# Altium schematic symbol library Schlib1.SchLib: 823 symbols (part 3 of 12)
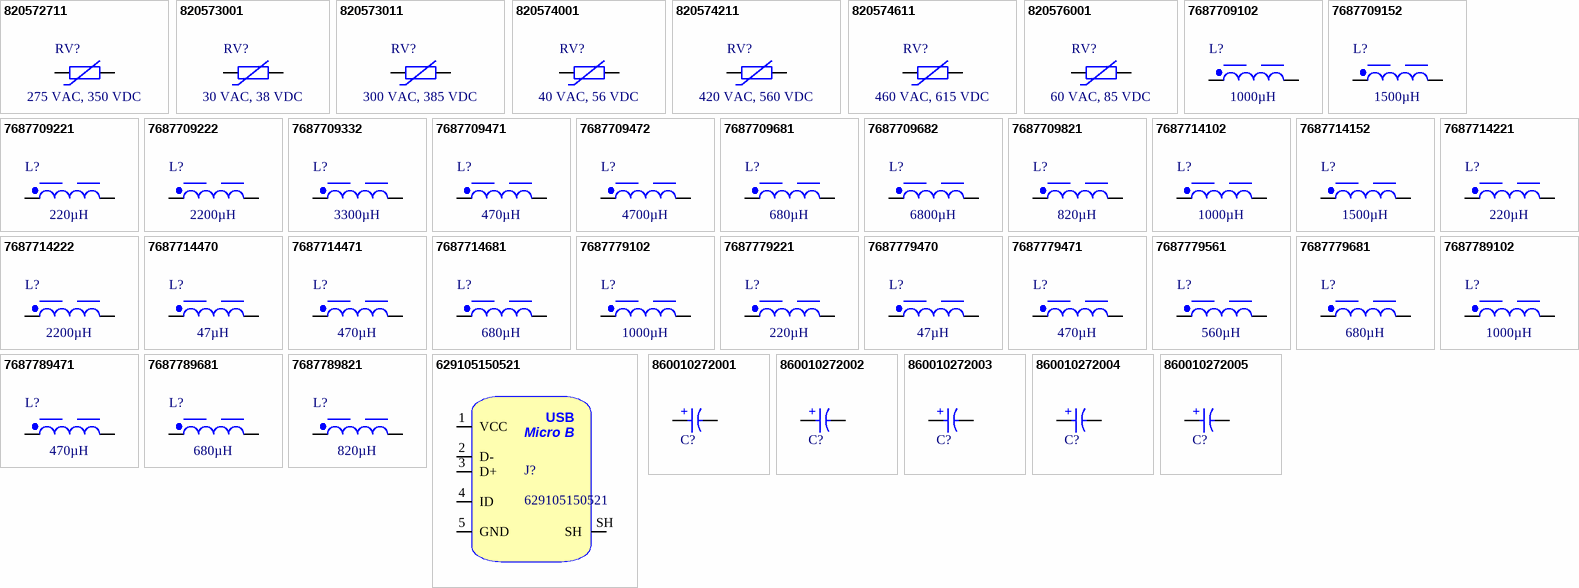
[diagram p41: symbols 820572711 to 860010272005]

## 820574611
designator RV?, comment 460 VAC, 615 VDC
WE-VD Disk Varistor, D9 x H13 mm, 460 VAC, 615 VDC; Manufacturer Part Number: 820574611; Manufacturer: Wurth Elektronik; Channel Input Capacitance: 75 pF; Clamping Voltage: 1240 V; Energy Absorption: 45 J; Operating Voltage (AC): 460 V; Operating Voltage (DC): 615 V; Power Dissipation: 0.25 W; (Reverse) Breakdown Voltage: 750 V; (Reverse) Peak Pulse Current: 1200 A; Category: Surge Protection; Match Code: WE-VD; ComponentLink1Description: Website Link; ComponentLink1URL: https://www.we-online.com/redexpert/article/820574611?ad; ComponentLink2Description: Datasheet Link; ComponentLink2URL: https://www.we-online.com/redexpert/spec/820574611?ad; Mount: Through Hole; Min Operating Temperature: -40 °C; Max Operating Temperature: 105 °C; Packaging: Tape and Reel; Width: 7.9 mm; Height: 13 mm; Diameter: 9 mm
footprint D9W7.9H13P3
pins: 1, 2

## 820576001
designator RV?, comment 60 VAC, 85 VDC
WE-VD Disk Varistor, D9 x H12 mm, 60 VAC, 85 VDC; Manufacturer Part Number: 820576001; Manufacturer: Wurth Elektronik; Channel Input Capacitance: 540 pF; Clamping Voltage: 165 V; Energy Absorption: 7 J; Operating Voltage (AC): 60 V; Operating Voltage (DC): 85 V; Power Dissipation: 0.25 W; (Reverse) Breakdown Voltage: 100 V; (Reverse) Peak Pulse Current: 1200 A; Category: Surge Protection; Match Code: WE-VD; ComponentLink1Description: Website Link; ComponentLink1URL: https://www.we-online.com/redexpert/article/820576001?ad; ComponentLink2Description: Datasheet Link; ComponentLink2URL: https://www.we-online.com/redexpert/spec/820576001?ad; Mount: Through Hole; Min Operating Temperature: -40 °C; Max Operating Temperature: 105 °C; Packaging: Tape and Reel; Width: 3.9 mm; Height: 12 mm; Diameter: 9 mm
footprint D9W3.9H12P0.8
pins: 1, 2

## 7687709102
designator L?, comment 1000µH
WE-PD HV High Voltage Power Inductor, SMT, size 1210, 1000µH, 0.72A, 1.4Ω; Manufacturer Part Number: 7687709102; Manufacturer: Wurth Elektronik; Case/Size Code: 1210; DC Resistance: 1.2Ω; Operating Voltage (DC): 400V; Saturation Current: 0.9A; Self Resonant Frequency: 1.2MHz; Category: Power Inductors; Match Code: WE-PD HV; ComponentLink1Description: Website Link; ComponentLink1URL: https://www.we-online.com/redexpert/article/7687709102?ad; ComponentLink2Description: Datasheet Link; ComponentLink2URL: https://www.we-online.com/redexpert/spec/7687709102?ad; Mount: Surface Mount; Min Operating Temperature: -40°C; Max Operating Temperature: 125°C; Packaging: Tape and Reel; Length: 12mm; Width: 12mm; Height: 10.5mm; DC Resistance Max: 1.4Ω; Inductance: 1000µH; Rated Current: 0.72A
footprint WE-PD HV_1210 (SMT High Voltage Power Inductor, 2-Leads, body 12.00x12.00mm)
simulation model 1210_7687709102_1000u
pins: 1, 2

## 7687709152
designator L?, comment 1500µH
WE-PD HV High Voltage Power Inductor, SMT, size 1210, 1500µH, 0.52A, 2.2Ω; Manufacturer Part Number: 7687709152; Manufacturer: Wurth Elektronik; Case/Size Code: 1210; DC Resistance: 1.9Ω; Operating Voltage (DC): 400V; Saturation Current: 0.8A; Self Resonant Frequency: 0.9MHz; Category: Power Inductors; Match Code: WE-PD HV; ComponentLink1Description: Website Link; ComponentLink1URL: https://www.we-online.com/redexpert/article/7687709152?ad; ComponentLink2Description: Datasheet Link; ComponentLink2URL: https://www.we-online.com/redexpert/spec/7687709152?ad; Mount: Surface Mount; Min Operating Temperature: -40°C; Max Operating Temperature: 125°C; Packaging: Tape and Reel; Length: 12mm; Width: 12mm; Height: 10.5mm; DC Resistance Max: 2.2Ω; Inductance: 1500µH; Rated Current: 0.52A
footprint WE-PD HV_1210 (SMT High Voltage Power Inductor, 2-Leads, body 12.00x12.00mm)
simulation model 1210_7687709152_1500u
pins: 1, 2

## 7687709221
designator L?, comment 220µH
WE-PD HV High Voltage Power Inductor, SMT, size 1210, 220µH, 1.3A, 0.35Ω; Manufacturer Part Number: 7687709221; Manufacturer: Wurth Elektronik; Case/Size Code: 1210; DC Resistance: 0.3Ω; Operating Voltage (DC): 400V; Saturation Current: 2A; Self Resonant Frequency: 2.2MHz; Category: Power Inductors; Match Code: WE-PD HV; ComponentLink1Description: Website Link; ComponentLink1URL: https://www.we-online.com/redexpert/article/7687709221?ad; ComponentLink2Description: Datasheet Link; ComponentLink2URL: https://www.we-online.com/redexpert/spec/7687709221?ad; Mount: Surface Mount; Min Operating Temperature: -40°C; Max Operating Temperature: 125°C; Packaging: Tape and Reel; Length: 12mm; Width: 12mm; Height: 10.5mm; DC Resistance Max: 0.35Ω; Inductance: 220µH; Rated Current: 1.3A
footprint WE-PD HV_1210
simulation model 1210_7687709221_220u
pins: 1, 2

## 7687709222
designator L?, comment 2200µH
WE-PD HV High Voltage Power Inductor, SMT, size 1210, 2200µH, 0.43A, 3.7Ω; Manufacturer Part Number: 7687709222; Manufacturer: Wurth Elektronik; Case/Size Code: 1210; DC Resistance: 3.1Ω; Operating Voltage (DC): 400V; Saturation Current: 0.65A; Self Resonant Frequency: 0.8MHz; Category: Power Inductors; Match Code: WE-PD HV; ComponentLink1Description: Website Link; ComponentLink1URL: https://www.we-online.com/redexpert/article/7687709222?ad; ComponentLink2Description: Datasheet Link; ComponentLink2URL: https://www.we-online.com/redexpert/spec/7687709222?ad; Mount: Surface Mount; Min Operating Temperature: -40°C; Max Operating Temperature: 125°C; Packaging: Tape and Reel; Length: 12mm; Width: 12mm; Height: 10.5mm; DC Resistance Max: 3.7Ω; Inductance: 2200µH; Rated Current: 0.43A
footprint WE-PD HV_1210
simulation model 1210_7687709222_2200u
pins: 1, 2

## 7687709332
designator L?, comment 3300µH
WE-PD HV High Voltage Power Inductor, SMT, size 1210, 3300µH, 0.37A, 5.2Ω; Manufacturer Part Number: 7687709332; Manufacturer: Wurth Elektronik; Case/Size Code: 1210; DC Resistance: 4.4Ω; Operating Voltage (DC): 400V; Saturation Current: 0.52A; Self Resonant Frequency: 0.6MHz; Category: Power Inductors; Match Code: WE-PD HV; ComponentLink1Description: Website Link; ComponentLink1URL: https://www.we-online.com/redexpert/article/7687709332?ad; ComponentLink2Description: Datasheet Link; ComponentLink2URL: https://www.we-online.com/redexpert/spec/7687709332?ad; Mount: Surface Mount; Min Operating Temperature: -40°C; Max Operating Temperature: 125°C; Packaging: Tape and Reel; Length: 12mm; Width: 12mm; Height: 10.5mm; DC Resistance Max: 5.2Ω; Inductance: 3300µH; Rated Current: 0.37A
footprint WE-PD HV_1210
simulation model 1210_7687709332_3300u
pins: 1, 2

## 7687709471
designator L?, comment 470µH
WE-PD HV High Voltage Power Inductor, SMT, size 1210, 470µH, 0.97A, 0.8Ω; Manufacturer Part Number: 7687709471; Manufacturer: Wurth Elektronik; Case/Size Code: 1210; DC Resistance: 0.68Ω; Operating Voltage (DC): 400V; Saturation Current: 1.4A; Self Resonant Frequency: 1.9MHz; Category: Power Inductors; Match Code: WE-PD HV; ComponentLink1Description: Website Link; ComponentLink1URL: https://www.we-online.com/redexpert/article/7687709471?ad; ComponentLink2Description: Datasheet Link; ComponentLink2URL: https://www.we-online.com/redexpert/spec/7687709471?ad; Mount: Surface Mount; Min Operating Temperature: -40°C; Max Operating Temperature: 125°C; Packaging: Tape and Reel; Length: 12mm; Width: 12mm; Height: 10.5mm; DC Resistance Max: 0.8Ω; Inductance: 470µH; Rated Current: 0.97A
footprint WE-PD HV_1210
simulation model 1210_7687709471_470u
pins: 1, 2

## 7687709472
designator L?, comment 4700µH
WE-PD HV High Voltage Power Inductor, SMT, size 1210, 4700µH, 0.3A, 7.8Ω; Manufacturer Part Number: 7687709472; Manufacturer: Wurth Elektronik; Case/Size Code: 1210; DC Resistance: 6.5Ω; Operating Voltage (DC): 400V; Saturation Current: 0.48A; Self Resonant Frequency: 0.5MHz; Category: Power Inductors; Match Code: WE-PD HV; ComponentLink1Description: Website Link; ComponentLink1URL: https://www.we-online.com/redexpert/article/7687709472?ad; ComponentLink2Description: Datasheet Link; ComponentLink2URL: https://www.we-online.com/redexpert/spec/7687709472?ad; Mount: Surface Mount; Min Operating Temperature: -40°C; Max Operating Temperature: 125°C; Packaging: Tape and Reel; Length: 12mm; Width: 12mm; Height: 10.5mm; DC Resistance Max: 7.8Ω; Inductance: 4700µH; Rated Current: 0.3A
footprint WE-PD HV_1210
simulation model 1210_7687709472_4700u
pins: 1, 2

## 7687709681
designator L?, comment 680µH
WE-PD HV High Voltage Power Inductor, SMT, size 1210, 680µH, 0.8A, 1.15Ω; Manufacturer Part Number: 7687709681; Manufacturer: Wurth Elektronik; Case/Size Code: 1210; DC Resistance: 0.95Ω; Operating Voltage (DC): 400V; Saturation Current: 1.2A; Self Resonant Frequency: 1.5MHz; Category: Power Inductors; Match Code: WE-PD HV; ComponentLink1Description: Website Link; ComponentLink1URL: https://www.we-online.com/redexpert/article/7687709681?ad; ComponentLink2Description: Datasheet Link; ComponentLink2URL: https://www.we-online.com/redexpert/spec/7687709681?ad; Mount: Surface Mount; Min Operating Temperature: -40°C; Max Operating Temperature: 125°C; Packaging: Tape and Reel; Length: 12mm; Width: 12mm; Height: 10.5mm; DC Resistance Max: 1.15Ω; Inductance: 680µH; Rated Current: 0.8A
footprint WE-PD HV_1210
simulation model 1210_7687709681_680u
pins: 1, 2

## 7687709682
designator L?, comment 6800µH
WE-PD HV High Voltage Power Inductor, SMT, size 1210, 6800µH, 0.28A, 9.6Ω; Manufacturer Part Number: 7687709682; Manufacturer: Wurth Elektronik; Case/Size Code: 1210; DC Resistance: 8Ω; Operating Voltage (DC): 400V; Saturation Current: 0.38A; Self Resonant Frequency: 0.45MHz; Category: Power Inductors; Match Code: WE-PD HV; ComponentLink1Description: Website Link; ComponentLink1URL: https://www.we-online.com/redexpert/article/7687709682?ad; ComponentLink2Description: Datasheet Link; ComponentLink2URL: https://www.we-online.com/redexpert/spec/7687709682?ad; Mount: Surface Mount; Min Operating Temperature: -40°C; Max Operating Temperature: 125°C; Packaging: Tape and Reel; Length: 12mm; Width: 12mm; Height: 10.5mm; DC Resistance Max: 9.6Ω; Inductance: 6800µH; Rated Current: 0.28A
footprint WE-PD HV_1210
simulation model 1210_7687709682_6800u
pins: 1, 2

## 7687709821
designator L?, comment 820µH
WE-PD HV High Voltage Power Inductor, SMT, size 1210, 820µH, 0.76A, 1.25Ω; Manufacturer Part Number: 7687709821; Manufacturer: Wurth Elektronik; Case/Size Code: 1210; Operating Voltage (DC): 400V; Saturation Current: 1.1A; Self Resonant Frequency: 1.4MHz; Category: Power Inductors; Match Code: WE-PD HV; ComponentLink1Description: Website Link; ComponentLink1URL: https://www.we-online.com/redexpert/article/7687709821?ad; ComponentLink2Description: Datasheet Link; ComponentLink2URL: https://www.we-online.com/redexpert/spec/7687709821?ad; Mount: Surface Mount; Min Operating Temperature: -40°C; Max Operating Temperature: 125°C; Packaging: Tape and Reel; Length: 12mm; Width: 12mm; Height: 10.5mm; DC Resistance Max: 1.25Ω; Inductance: 820µH; Rated Current: 0.76A
footprint WE-PD HV_1210
simulation model 1210_7687709821_820u
pins: 1, 2

## 7687714102
designator L?, comment 1000µH
WE-PD HV High Voltage Power Inductor, SMT, size 1060, 1000µH, 0.4A, 3.2Ω; Manufacturer Part Number: 7687714102; Manufacturer: Wurth Elektronik; Case/Size Code: 1060; DC Resistance: 2.7Ω; Operating Voltage (DC): 400V; Saturation Current: 0.55A; Self Resonant Frequency: 1.7MHz; Category: Power Inductors; Match Code: WE-PD HV; ComponentLink1Description: Website Link; ComponentLink1URL: https://www.we-online.com/redexpert/article/7687714102?ad; ComponentLink2Description: Datasheet Link; ComponentLink2URL: https://www.we-online.com/redexpert/spec/7687714102?ad; Mount: Surface Mount; Min Operating Temperature: -40°C; Max Operating Temperature: 125°C; Packaging: Tape and Reel; Length: 10mm; Width: 10mm; Height: 6mm; DC Resistance Max: 3.2Ω; Inductance: 1000µH; Rated Current: 0.4A
footprint WE-PD HV_1060
simulation model 1060_7687714102_1000u
pins: 1, 2

## 7687714152
designator L?, comment 1500µH
WE-PD HV High Voltage Power Inductor, SMT, size 1060, 1500µH, 0.32A, 4.6Ω; Manufacturer Part Number: 7687714152; Manufacturer: Wurth Elektronik; Case/Size Code: 1060; DC Resistance: 3.8Ω; Operating Voltage (DC): 400V; Saturation Current: 0.46A; Self Resonant Frequency: 1.4MHz; Category: Power Inductors; Match Code: WE-PD HV; ComponentLink1Description: Website Link; ComponentLink1URL: https://www.we-online.com/redexpert/article/7687714152?ad; ComponentLink2Description: Datasheet Link; ComponentLink2URL: https://www.we-online.com/redexpert/spec/7687714152?ad; Mount: Surface Mount; Min Operating Temperature: -40°C; Max Operating Temperature: 125°C; Packaging: Tape and Reel; Length: 10mm; Width: 10mm; Height: 6mm; DC Resistance Max: 4.6Ω; Inductance: 1500µH; Rated Current: 0.32A
footprint WE-PD HV_1060
simulation model 1060_7687714152_1500u
pins: 1, 2

## 7687714221
designator L?, comment 220µH
WE-PD HV High Voltage Power Inductor, SMT, size 1060, 220µH, 0.95A, 0.68Ω; Manufacturer Part Number: 7687714221; Manufacturer: Wurth Elektronik; Case/Size Code: 1060; DC Resistance: 0.57Ω; Operating Voltage (DC): 400V; Saturation Current: 1.15A; Self Resonant Frequency: 3.9MHz; Category: Power Inductors; Match Code: WE-PD HV; ComponentLink1Description: Website Link; ComponentLink1URL: https://www.we-online.com/redexpert/article/7687714221?ad; ComponentLink2Description: Datasheet Link; ComponentLink2URL: https://www.we-online.com/redexpert/spec/7687714221?ad; Mount: Surface Mount; Min Operating Temperature: -40°C; Max Operating Temperature: 125°C; Packaging: Tape and Reel; Length: 10mm; Width: 10mm; Height: 6mm; DC Resistance Max: 0.68Ω; Inductance: 220µH; Rated Current: 0.95A
footprint WE-PD HV_1060
simulation model 1060_7687714221_220u
pins: 1, 2

## 7687714222
designator L?, comment 2200µH
WE-PD HV High Voltage Power Inductor, SMT, size 1060, 2200µH, 0.26A, 6.5Ω; Manufacturer Part Number: 7687714222; Manufacturer: Wurth Elektronik; Case/Size Code: 1060; DC Resistance: 5.5Ω; Operating Voltage (DC): 400V; Saturation Current: 0.37A; Self Resonant Frequency: 1.2MHz; Category: Power Inductors; Match Code: WE-PD HV; ComponentLink1Description: Website Link; ComponentLink1URL: https://www.we-online.com/redexpert/article/7687714222?ad; ComponentLink2Description: Datasheet Link; ComponentLink2URL: https://www.we-online.com/redexpert/spec/7687714222?ad; Mount: Surface Mount; Min Operating Temperature: -40°C; Max Operating Temperature: 125°C; Packaging: Tape and Reel; Length: 10mm; Width: 10mm; Height: 6mm; DC Resistance Max: 6.5Ω; Inductance: 2200µH; Rated Current: 0.26A
footprint WE-PD HV_1060
simulation model 1060_7687714222_2200u
pins: 1, 2

## 7687714470
designator L?, comment 47µH
WE-PD HV High Voltage Power Inductor, SMT, size 1060, 47µH, 1.7A, 0.156Ω; Manufacturer Part Number: 7687714470; Manufacturer: Wurth Elektronik; Case/Size Code: 1060; DC Resistance: 0.13Ω; Operating Voltage (DC): 400V; Saturation Current: 2.3A; Self Resonant Frequency: 10.2MHz; Category: Power Inductors; Match Code: WE-PD HV; ComponentLink1Description: Website Link; ComponentLink1URL: https://www.we-online.com/redexpert/article/7687714470?ad; ComponentLink2Description: Datasheet Link; ComponentLink2URL: https://www.we-online.com/redexpert/spec/7687714470?ad; Mount: Surface Mount; Min Operating Temperature: -40°C; Max Operating Temperature: 125°C; Packaging: Tape and Reel; Length: 10mm; Width: 10mm; Height: 6mm; DC Resistance Max: 0.156Ω; Inductance: 47µH; Rated Current: 1.7A
footprint WE-PD HV_1060
simulation model 1060_7687714470_47u
pins: 1, 2

## 7687714471
designator L?, comment 470µH
WE-PD HV High Voltage Power Inductor, SMT, size 1060, 470µH, 0.6A, 1.45Ω; Manufacturer Part Number: 7687714471; Manufacturer: Wurth Elektronik; Case/Size Code: 1060; DC Resistance: 1.25Ω; Operating Voltage (DC): 400V; Saturation Current: 0.8A; Self Resonant Frequency: 2.7MHz; Category: Power Inductors; Match Code: WE-PD HV; ComponentLink1Description: Website Link; ComponentLink1URL: https://www.we-online.com/redexpert/article/7687714471?ad; ComponentLink2Description: Datasheet Link; ComponentLink2URL: https://www.we-online.com/redexpert/spec/7687714471?ad; Mount: Surface Mount; Min Operating Temperature: -40°C; Max Operating Temperature: 125°C; Packaging: Tape and Reel; Length: 10mm; Width: 10mm; Height: 6mm; DC Resistance Max: 1.45Ω; Inductance: 470µH; Rated Current: 0.6A
footprint WE-PD HV_1060
simulation model 1060_7687714471_470u
pins: 1, 2

## 7687714681
designator L?, comment 680µH
WE-PD HV High Voltage Power Inductor, SMT, size 1060, 680µH, 0.55A, 2.25Ω; Manufacturer Part Number: 7687714681; Manufacturer: Wurth Elektronik; Case/Size Code: 1060; DC Resistance: 1.9Ω; Operating Voltage (DC): 400V; Saturation Current: 0.61A; Self Resonant Frequency: 2MHz; Category: Power Inductors; Match Code: WE-PD HV; ComponentLink1Description: Website Link; ComponentLink1URL: https://www.we-online.com/redexpert/article/7687714681?ad; ComponentLink2Description: Datasheet Link; ComponentLink2URL: https://www.we-online.com/redexpert/spec/7687714681?ad; Mount: Surface Mount; Min Operating Temperature: -40°C; Max Operating Temperature: 125°C; Packaging: Tape and Reel; Length: 10mm; Width: 10mm; Height: 6mm; DC Resistance Max: 2.25Ω; Inductance: 680µH; Rated Current: 0.55A
footprint WE-PD HV_1060
simulation model 1060_7687714681_680u
pins: 1, 2

## 7687779102
designator L?, comment 1000µH
WE-PD HV High Voltage Power Inductor, SMT, size 7345, 1000µH, 0.24A, 6Ω; Manufacturer Part Number: 7687779102; Manufacturer: Wurth Elektronik; Case/Size Code: 7345; DC Resistance: 5.1Ω; Operating Voltage (DC): 400V; Saturation Current: 0.25A; Self Resonant Frequency: 2.3MHz; Category: Power Inductors; Match Code: WE-PD HV; ComponentLink1Description: Website Link; ComponentLink1URL: https://www.we-online.com/redexpert/article/7687779102?ad; ComponentLink2Description: Datasheet Link; ComponentLink2URL: https://www.we-online.com/redexpert/spec/7687779102?ad; Mount: Surface Mount; Min Operating Temperature: -40°C; Max Operating Temperature: 125°C; Packaging: Tape and Reel; Length: 7.3mm; Width: 7.3mm; Height: 4.5mm; DC Resistance Max: 6Ω; Inductance: 1000µH; Rated Current: 0.24A
footprint WE-PD HV_7345
simulation model 7345_7687779102_1000u
pins: 1, 2

## 7687779221
designator L?, comment 220µH
WE-PD HV High Voltage Power Inductor, SMT, size 7345, 220µH, 0.56A, 1.3Ω; Manufacturer Part Number: 7687779221; Manufacturer: Wurth Elektronik; Case/Size Code: 7345; DC Resistance: 1.1Ω; Operating Voltage (DC): 400V; Saturation Current: 0.5A; Self Resonant Frequency: 4.9MHz; Category: Power Inductors; Match Code: WE-PD HV; ComponentLink1Description: Website Link; ComponentLink1URL: https://www.we-online.com/redexpert/article/7687779221?ad; ComponentLink2Description: Datasheet Link; ComponentLink2URL: https://www.we-online.com/redexpert/spec/7687779221?ad; Mount: Surface Mount; Min Operating Temperature: -40°C; Max Operating Temperature: 125°C; Packaging: Tape and Reel; Length: 7.3mm; Width: 7.3mm; Height: 4.5mm; DC Resistance Max: 1.3Ω; Inductance: 220µH; Rated Current: 0.56A
footprint WE-PD HV_7345
simulation model 7345_7687779221_220u
pins: 1, 2

## 7687779470
designator L?, comment 47µH
WE-PD HV High Voltage Power Inductor, SMT, size 7345, 47µH, 1A, 0.28Ω; Manufacturer Part Number: 7687779470; Manufacturer: Wurth Elektronik; Case/Size Code: 7345; DC Resistance: 0.24Ω; Operating Voltage (DC): 400V; Saturation Current: 1.1A; Self Resonant Frequency: 11.3MHz; Category: Power Inductors; Match Code: WE-PD HV; ComponentLink1Description: Website Link; ComponentLink1URL: https://www.we-online.com/redexpert/article/7687779470?ad; ComponentLink2Description: Datasheet Link; ComponentLink2URL: https://www.we-online.com/redexpert/spec/7687779470?ad; Mount: Surface Mount; Min Operating Temperature: -40°C; Max Operating Temperature: 125°C; Packaging: Tape and Reel; Length: 7.3mm; Width: 7.3mm; Height: 4.5mm; DC Resistance Max: 0.28Ω; Inductance: 47µH; Rated Current: 1A
footprint WE-PD HV_7345
simulation model 7345_7687779470_47u
pins: 1, 2

## 7687779471
designator L?, comment 470µH
WE-PD HV High Voltage Power Inductor, SMT, size 7345, 470µH, 0.35A, 3.2Ω; Manufacturer Part Number: 7687779471; Manufacturer: Wurth Elektronik; Case/Size Code: 7345; DC Resistance: 2.7Ω; Operating Voltage (DC): 400V; Saturation Current: 0.37A; Self Resonant Frequency: 3MHz; Category: Power Inductors; Match Code: WE-PD HV; ComponentLink1Description: Website Link; ComponentLink1URL: https://www.we-online.com/redexpert/article/7687779471?ad; ComponentLink2Description: Datasheet Link; ComponentLink2URL: https://www.we-online.com/redexpert/spec/7687779471?ad; Mount: Surface Mount; Min Operating Temperature: -40°C; Max Operating Temperature: 125°C; Packaging: Tape and Reel; Length: 7.3mm; Width: 7.3mm; Height: 4.5mm; DC Resistance Max: 3.2Ω; Inductance: 470µH; Rated Current: 0.35A
footprint WE-PD HV_7345 (SMT High Voltage Power Inductor, 2-Leads, body 7.30x7.30mm)
simulation model 7345_7687779471_470u
pins: 1, 2

## 7687779561
designator L?, comment 560µH
WE-PD HV High Voltage Power Inductor, SMT, size 7345, 560µH, 0.33A, 3.6Ω; Manufacturer Part Number: 7687779561; Manufacturer: Wurth Elektronik; Case/Size Code: 7345; DC Resistance: 3Ω; Operating Voltage (DC): 400V; Saturation Current: 0.35A; Self Resonant Frequency: 2.9MHz; Category: Power Inductors; Match Code: WE-PD HV; ComponentLink1Description: Website Link; ComponentLink1URL: https://www.we-online.com/redexpert/article/7687779561?ad; ComponentLink2Description: Datasheet Link; ComponentLink2URL: https://www.we-online.com/redexpert/spec/7687779561?ad; Mount: Surface Mount; Min Operating Temperature: -40°C; Max Operating Temperature: 125°C; Packaging: Tape and Reel; Length: 7.3mm; Width: 7.3mm; Height: 4.5mm; DC Resistance Max: 3.6Ω; Inductance: 560µH; Rated Current: 0.33A
footprint WE-PD HV_7345
simulation model 7345_7687779561_560u
pins: 1, 2

## 7687779681
designator L?, comment 680µH
WE-PD HV High Voltage Power Inductor, SMT, size 7345, 680µH, 0.3A, 4Ω; Manufacturer Part Number: 7687779681; Manufacturer: Wurth Elektronik; Case/Size Code: 7345; DC Resistance: 3.4Ω; Operating Voltage (DC): 400V; Self Resonant Frequency: 2.8MHz; Category: Power Inductors; Match Code: WE-PD HV; ComponentLink1Description: Website Link; ComponentLink1URL: https://www.we-online.com/redexpert/article/7687779681?ad; ComponentLink2Description: Datasheet Link; ComponentLink2URL: https://www.we-online.com/redexpert/spec/7687779681?ad; Mount: Surface Mount; Min Operating Temperature: -40°C; Max Operating Temperature: 125°C; Packaging: Tape and Reel; Length: 7.3mm; Width: 7.3mm; Height: 4.5mm; DC Resistance Max: 4Ω; Inductance: 680µH; Rated Current: 0.3A; Saturation Current: 0.3A
footprint WE-PD HV_7345
simulation model 7345_7687779681_680u
pins: 1, 2

## 7687789102
designator L?, comment 1000µH
WE-PD HV High Voltage Power Inductor, SMT, size 7332, 1000µH, 0.17A, 9Ω; Manufacturer Part Number: 7687789102; Manufacturer: Wurth Elektronik; Case/Size Code: 7332; Operating Voltage (DC): 400V; Saturation Current: 0.2A; Self Resonant Frequency: 2.5MHz; Category: Power Inductors; Match Code: WE-PD HV; ComponentLink1Description: Website Link; ComponentLink1URL: https://www.we-online.com/redexpert/article/7687789102?ad; ComponentLink2Description: Datasheet Link; ComponentLink2URL: https://www.we-online.com/redexpert/spec/7687789102?ad; Mount: Surface Mount; Min Operating Temperature: -40°C; Max Operating Temperature: 125°C; Packaging: Tape and Reel; Length: 3.2mm; Width: 7.3mm; Height: 1.5mm; DC Resistance Max: 9Ω; Inductance: 1000µH; Rated Current: 0.17A
footprint WE-PD HV_7332
simulation model 7332_7687789102_1000u
pins: 1, 2

## 7687789471
designator L?, comment 470µH
WE-PD HV High Voltage Power Inductor, SMT, size 7332, 470µH, 0.25A, 3.5Ω; Manufacturer Part Number: 7687789471; Manufacturer: Wurth Elektronik; Case/Size Code: 7332; Operating Voltage (DC): 400V; Saturation Current: 0.35A; Self Resonant Frequency: 4.9MHz; Category: Power Inductors; Match Code: WE-PD HV; ComponentLink1Description: Website Link; ComponentLink1URL: https://www.we-online.com/redexpert/article/7687789471?ad; ComponentLink2Description: Datasheet Link; ComponentLink2URL: https://www.we-online.com/redexpert/spec/7687789471?ad; Mount: Surface Mount; Min Operating Temperature: -40°C; Max Operating Temperature: 125°C; Packaging: Tape and Reel; Length: 3.2mm; Width: 7.3mm; Height: 1.5mm; DC Resistance Max: 3.5Ω; Inductance: 470µH; Rated Current: 0.25A
footprint WE-PD HV_7332
simulation model 7332_7687789471_470u
pins: 1, 2

## 7687789681
designator L?, comment 680µH
WE-PD HV High Voltage Power Inductor, SMT, size 7332, 680µH, 0.22A, 5.2Ω; Manufacturer Part Number: 7687789681; Manufacturer: Wurth Elektronik; Case/Size Code: 7332; Operating Voltage (DC): 400V; Saturation Current: 0.26A; Self Resonant Frequency: 3.5MHz; Category: Power Inductors; Match Code: WE-PD HV; ComponentLink1Description: Website Link; ComponentLink1URL: https://www.we-online.com/redexpert/article/7687789681?ad; ComponentLink2Description: Datasheet Link; ComponentLink2URL: https://www.we-online.com/redexpert/spec/7687789681?ad; Mount: Surface Mount; Min Operating Temperature: -40°C; Max Operating Temperature: 125°C; Packaging: Tape and Reel; Length: 3.2mm; Width: 7.3mm; Height: 1.5mm; DC Resistance Max: 5.2Ω; Inductance: 680µH; Rated Current: 0.22A
footprint WE-PD HV_7332
simulation model 7332_7687789681_680u
pins: 1, 2

## 7687789821
designator L?, comment 820µH
WE-PD HV High Voltage Power Inductor, SMT, size 7332, 820µH, 0.18A, 8.2Ω; Manufacturer Part Number: 7687789821; Manufacturer: Wurth Elektronik; Case/Size Code: 7332; Operating Voltage (DC): 400V; Saturation Current: 0.23A; Self Resonant Frequency: 3.3MHz; Category: Power Inductors; Match Code: WE-PD HV; ComponentLink1Description: Website Link; ComponentLink1URL: https://www.we-online.com/redexpert/article/7687789821?ad; ComponentLink2Description: Datasheet Link; ComponentLink2URL: https://www.we-online.com/redexpert/spec/7687789821?ad; Mount: Surface Mount; Min Operating Temperature: -40°C; Max Operating Temperature: 125°C; Packaging: Tape and Reel; Length: 3.2mm; Width: 7.3mm; Height: 1.5mm; DC Resistance Max: 8.2Ω; Inductance: 820µH; Rated Current: 0.18A
footprint WE-PD HV_7332
simulation model 7332_7687789821_820u
pins: 1, 2

## 629105150521
designator J?
USB Connector Type Micro B 2.0 SMD; Manufacturer: Wurth; Manufacturer Part Number: 629105150521; Distributor Link: https://www.mouser.de/ProductDetail/Wurth-Elektronik/629105150521?qs=a9WhcLg8qCzXiH7kZP8GRQ%3D%3D
footprint 629105150521
pins: 1 VCC, 2 D-, 3 D+, 4 ID, 5 GND, SH
text: USB; Micro B

## 860010272001
designator C?, comment 22uF  (value not drawn)
WCAP-ATG8 Aluminum Electrolytic Capacitor, Radial, THT, D5 x H11mm, 22uF, 10V; Manufacturer Part Number: 860010272001; Manufacturer: Wurth Elektronik; Capacitance Tolerance: +/-20%; Dissipation Factor: 19%; Endurance: 2000h; Leakage Current: 3uA; Ripple Current: 66mA; Technical Reference: ATBC110220M010DSPA3B000; Category: Aluminum Electrolytic Capacitors; Match Code: WCAP-ATG8; ComponentLink1Description: Website Link; ComponentLink1URL: https://www.we-online.com/redexpert/article/860010272001?ad; ComponentLink2Description: Datasheet Link; ComponentLink2URL: https://www.we-online.com/redexpert/spec/860010272001?ad; Mount: Through Hole; Operating Temperature Max: 85°C; Operating Temperature Min: -40°C; Packaging: Ammo Pack; Height: 11mm; Diameter: 5mm; Capacitance: 22uF; Rated Voltage (DC): 10V
footprint WCAP-ATG8_D5H11
simulation model 860010272001_22uF
pins: 1 P, 2 N
text: +

## 860010272002
designator C?, comment 33uF  (value not drawn)
WCAP-ATG8 Aluminum Electrolytic Capacitor, Radial, THT, D5 x H11mm, 33uF, 10V; Manufacturer Part Number: 860010272002; Manufacturer: Wurth Elektronik; Capacitance Tolerance: +/-20%; Dissipation Factor: 19%; Endurance: 2000h; Leakage Current: 3.3uA; Ripple Current: 88mA; Technical Reference: ATBC110330M010DSPA3B000; Category: Aluminum Electrolytic Capacitors; Match Code: WCAP-ATG8; ComponentLink1Description: Website Link; ComponentLink1URL: https://www.we-online.com/redexpert/article/860010272002?ad; ComponentLink2Description: Datasheet Link; ComponentLink2URL: https://www.we-online.com/redexpert/spec/860010272002?ad; Mount: Through Hole; Operating Temperature Max: 85°C; Operating Temperature Min: -40°C; Packaging: Ammo Pack; Height: 11mm; Diameter: 5mm; Capacitance: 33uF; Rated Voltage (DC): 10V
footprint WCAP-ATG8_D5H11
simulation model 860010272002_33uF
pins: 1 P, 2 N
text: +

## 860010272003
designator C?, comment 47uF  (value not drawn)
WCAP-ATG8 Aluminum Electrolytic Capacitor, Radial, THT, D5 x H11mm, 47uF, 10V; Manufacturer Part Number: 860010272003; Manufacturer: Wurth Elektronik; Capacitance Tolerance: +/-20%; Dissipation Factor: 19%; Endurance: 2000h; Leakage Current: 4.7uA; Ripple Current: 105mA; Technical Reference: ATBC110470M010DSPA3B000; Category: Aluminum Electrolytic Capacitors; Match Code: WCAP-ATG8; ComponentLink1Description: Website Link; ComponentLink1URL: https://www.we-online.com/redexpert/article/860010272003?ad; ComponentLink2Description: Datasheet Link; ComponentLink2URL: https://www.we-online.com/redexpert/spec/860010272003?ad; Mount: Through Hole; Operating Temperature Max: 85°C; Operating Temperature Min: -40°C; Packaging: Ammo Pack; Height: 11mm; Diameter: 5mm; Capacitance: 47uF; Rated Voltage (DC): 10V
footprint WCAP-ATG8_D5H11
simulation model 860010272003_47uF
pins: 1 P, 2 N
text: +

## 860010272004
designator C?, comment 68uF  (value not drawn)
WCAP-ATG8 Aluminum Electrolytic Capacitor, Radial, THT, D5 x H11mm, 68uF, 10V; Manufacturer Part Number: 860010272004; Manufacturer: Wurth Elektronik; Capacitance Tolerance: +/-20%; Dissipation Factor: 19%; Endurance: 2000h; Leakage Current: 6.8uA; Ripple Current: 132mA; Technical Reference: ATBC110680M010DSPA3B000; Category: Aluminum Electrolytic Capacitors; Match Code: WCAP-ATG8; ComponentLink1Description: Website Link; ComponentLink1URL: https://www.we-online.com/redexpert/article/860010272004?ad; ComponentLink2Description: Datasheet Link; ComponentLink2URL: https://www.we-online.com/redexpert/spec/860010272004?ad; Mount: Through Hole; Operating Temperature Max: 85°C; Operating Temperature Min: -40°C; Packaging: Ammo Pack; Height: 11mm; Diameter: 5mm; Capacitance: 68uF; Rated Voltage (DC): 10V
footprint WCAP-ATG8_D5H11
simulation model 860010272004_68uF
pins: 1 P, 2 N
text: +

## 860010272005
designator C?, comment 100uF  (value not drawn)
WCAP-ATG8 Aluminum Electrolytic Capacitor, Radial, THT, D5 x H11mm, 100uF, 10V; Manufacturer Part Number: 860010272005; Manufacturer: Wurth Elektronik; Capacitance Tolerance: +/-20%; Dissipation Factor: 19%; Endurance: 2000h; Leakage Current: 10uA; Ripple Current: 198mA; Technical Reference: ATBC110101M010DSPA3B000; Category: Aluminum Electrolytic Capacitors; Match Code: WCAP-ATG8; ComponentLink1Description: Website Link; ComponentLink1URL: https://www.we-online.com/redexpert/article/860010272005?ad; ComponentLink2Description: Datasheet Link; ComponentLink2URL: https://www.we-online.com/redexpert/spec/860010272005?ad; Mount: Through Hole; Operating Temperature Max: 85°C; Operating Temperature Min: -40°C; Packaging: Ammo Pack; Height: 11mm; Diameter: 5mm; Capacitance: 100uF; Rated Voltage (DC): 10V
footprint WCAP-ATG8_D5H11
simulation model 860010272005_100uF
pins: 1 P, 2 N
text: +

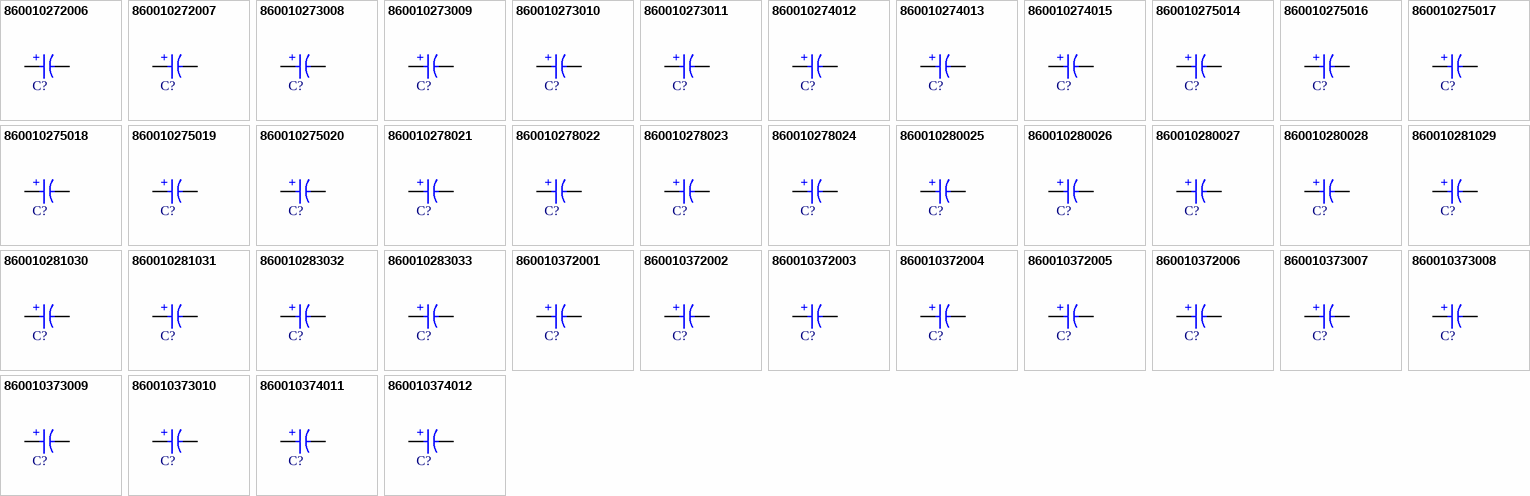
[diagram p6: symbols 860010272006 to 860010374012]

## 860010272006
designator C?, comment 120uF  (value not drawn)
WCAP-ATG8 Aluminum Electrolytic Capacitor, Radial, THT, D5 x H11mm, 120uF, 10V; Manufacturer Part Number: 860010272006; Manufacturer: Wurth Elektronik; Capacitance Tolerance: +/-20%; Dissipation Factor: 19%; Endurance: 2000h; Leakage Current: 12uA; Ripple Current: 209mA; Technical Reference: ATBC110121M010DSPA3B000; Category: Aluminum Electrolytic Capacitors; Match Code: WCAP-ATG8; ComponentLink1Description: Website Link; ComponentLink1URL: https://www.we-online.com/redexpert/article/860010272006?ad; ComponentLink2Description: Datasheet Link; ComponentLink2URL: https://www.we-online.com/redexpert/spec/860010272006?ad; Mount: Through Hole; Operating Temperature Max: 85°C; Operating Temperature Min: -40°C; Packaging: Ammo Pack; Height: 11mm; Diameter: 5mm; Capacitance: 120uF; Rated Voltage (DC): 10V
footprint WCAP-ATG8_D5H11
simulation model 860010272006_120uF
pins: 1 P, 2 N
text: +

## 860010272007
designator C?, comment 150uF  (value not drawn)
WCAP-ATG8 Aluminum Electrolytic Capacitor, Radial, THT, D5 x H11mm, 150uF, 10V; Manufacturer Part Number: 860010272007; Manufacturer: Wurth Elektronik; Capacitance Tolerance: +/-20%; Dissipation Factor: 19%; Endurance: 2000h; Leakage Current: 15uA; Ripple Current: 231mA; Technical Reference: ATBC110151M010DSPA3B000; Category: Aluminum Electrolytic Capacitors; Match Code: WCAP-ATG8; ComponentLink1Description: Website Link; ComponentLink1URL: https://www.we-online.com/redexpert/article/860010272007?ad; ComponentLink2Description: Datasheet Link; ComponentLink2URL: https://www.we-online.com/redexpert/spec/860010272007?ad; Mount: Through Hole; Operating Temperature Max: 85°C; Operating Temperature Min: -40°C; Packaging: Ammo Pack; Height: 11mm; Diameter: 5mm; Capacitance: 150uF; Rated Voltage (DC): 10V
footprint WCAP-ATG8_D5H11
simulation model 860010272007_150uF
pins: 1 P, 2 N
text: +

## 860010273008
designator C?, comment 180uF  (value not drawn)
WCAP-ATG8 Aluminum Electrolytic Capacitor, Radial, THT, D6.3 x H11mm, 180uF, 10V; Manufacturer Part Number: 860010273008; Manufacturer: Wurth Elektronik; Capacitance Tolerance: +/-20%; Dissipation Factor: 19%; Endurance: 2000h; Leakage Current: 18uA; Ripple Current: 253mA; Technical Reference: ATBD110181M010DSPA4B000; Category: Aluminum Electrolytic Capacitors; Match Code: WCAP-ATG8; ComponentLink1Description: Website Link; ComponentLink1URL: https://www.we-online.com/redexpert/article/860010273008?ad; ComponentLink2Description: Datasheet Link; ComponentLink2URL: https://www.we-online.com/redexpert/spec/860010273008?ad; Mount: Through Hole; Operating Temperature Max: 85°C; Operating Temperature Min: -40°C; Packaging: Ammo Pack; Height: 11mm; Diameter: 6.3mm; Capacitance: 180uF; Rated Voltage (DC): 10V
footprint WCAP-ATG8_D6.3H11
simulation model 860010273008_180uF
pins: 1 P, 2 N
text: +

## 860010273009
designator C?, comment 220uF  (value not drawn)
WCAP-ATG8 Aluminum Electrolytic Capacitor, Radial, THT, D6.3 x H11mm, 220uF, 10V; Manufacturer Part Number: 860010273009; Manufacturer: Wurth Elektronik; Capacitance Tolerance: +/-20%; Dissipation Factor: 19%; Endurance: 2000h; Leakage Current: 22uA; Ripple Current: 294mA; Technical Reference: ATBD110221M010DSPA4B000; Category: Aluminum Electrolytic Capacitors; Match Code: WCAP-ATG8; ComponentLink1Description: Website Link; ComponentLink1URL: https://www.we-online.com/redexpert/article/860010273009?ad; ComponentLink2Description: Datasheet Link; ComponentLink2URL: https://www.we-online.com/redexpert/spec/860010273009?ad; Mount: Through Hole; Operating Temperature Max: 85°C; Operating Temperature Min: -40°C; Packaging: Ammo Pack; Height: 11mm; Diameter: 6.3mm; Capacitance: 220uF; Rated Voltage (DC): 10V
footprint WCAP-ATG8_D6.3H11
simulation model 860010273009_220uF
pins: 1 P, 2 N
text: +

## 860010273010
designator C?, comment 330uF  (value not drawn)
WCAP-ATG8 Aluminum Electrolytic Capacitor, Radial, THT, D6.3 x H11mm, 330uF, 10V; Manufacturer Part Number: 860010273010; Manufacturer: Wurth Elektronik; Capacitance Tolerance: +/-20%; Dissipation Factor: 19%; Endurance: 2000h; Leakage Current: 33uA; Ripple Current: 363mA; Technical Reference: ATBD110331M010DSPA4B000; Category: Aluminum Electrolytic Capacitors; Match Code: WCAP-ATG8; ComponentLink1Description: Website Link; ComponentLink1URL: https://www.we-online.com/redexpert/article/860010273010?ad; ComponentLink2Description: Datasheet Link; ComponentLink2URL: https://www.we-online.com/redexpert/spec/860010273010?ad; Mount: Through Hole; Operating Temperature Max: 85°C; Operating Temperature Min: -40°C; Packaging: Ammo Pack; Height: 11mm; Diameter: 6.3mm; Capacitance: 330uF; Rated Voltage (DC): 10V
footprint WCAP-ATG8_D6.3H11
simulation model 860010273010_330uF
pins: 1 P, 2 N
text: +

## 860010273011
designator C?, comment 470uF  (value not drawn)
WCAP-ATG8 Aluminum Electrolytic Capacitor, Radial, THT, D6.3 x H11mm, 470uF, 10V; Manufacturer Part Number: 860010273011; Manufacturer: Wurth Elektronik; Capacitance Tolerance: +/-20%; Dissipation Factor: 19%; Endurance: 2000h; Leakage Current: 47uA; Ripple Current: 418mA; Technical Reference: ATBD110471M010DSPA4B000; Category: Aluminum Electrolytic Capacitors; Match Code: WCAP-ATG8; ComponentLink1Description: Website Link; ComponentLink1URL: https://www.we-online.com/redexpert/article/860010273011?ad; ComponentLink2Description: Datasheet Link; ComponentLink2URL: https://www.we-online.com/redexpert/spec/860010273011?ad; Mount: Through Hole; Operating Temperature Max: 85°C; Operating Temperature Min: -40°C; Packaging: Ammo Pack; Height: 11mm; Diameter: 6.3mm; Capacitance: 470uF; Rated Voltage (DC): 10V
footprint WCAP-ATG8_D6.3H11
simulation model 860010273011_470uF
pins: 1 P, 2 N
text: +

## 860010274012
designator C?, comment 560uF  (value not drawn)
WCAP-ATG8 Aluminum Electrolytic Capacitor, Radial, THT, D8 x H11.5mm, 560uF, 10V; Manufacturer Part Number: 860010274012; Manufacturer: Wurth Elektronik; Capacitance Tolerance: +/-20%; Dissipation Factor: 19%; Endurance: 2000h; Leakage Current: 56uA; Ripple Current: 506mA; Technical Reference: ATBE115561M010DSPA7B000; Category: Aluminum Electrolytic Capacitors; Match Code: WCAP-ATG8; ComponentLink1Description: Website Link; ComponentLink1URL: https://www.we-online.com/redexpert/article/860010274012?ad; ComponentLink2Description: Datasheet Link; ComponentLink2URL: https://www.we-online.com/redexpert/spec/860010274012?ad; Mount: Through Hole; Operating Temperature Max: 85°C; Operating Temperature Min: -40°C; Packaging: Ammo Pack; Height: 11.5mm; Diameter: 8mm; Capacitance: 560uF; Rated Voltage (DC): 10V
footprint WCAP-ATG8_D8H11.5
simulation model 860010274012_560uF
pins: 1 P, 2 N
text: +

## 860010274013
designator C?, comment 680uF  (value not drawn)
WCAP-ATG8 Aluminum Electrolytic Capacitor, Radial, THT, D8 x H11.5mm, 680uF, 10V; Manufacturer Part Number: 860010274013; Manufacturer: Wurth Elektronik; Capacitance Tolerance: +/-20%; Dissipation Factor: 19%; Endurance: 2000h; Leakage Current: 68uA; Ripple Current: 572mA; Technical Reference: ATBE115681M010DSPA7B000; Category: Aluminum Electrolytic Capacitors; Match Code: WCAP-ATG8; ComponentLink1Description: Website Link; ComponentLink1URL: https://www.we-online.com/redexpert/article/860010274013?ad; ComponentLink2Description: Datasheet Link; ComponentLink2URL: https://www.we-online.com/redexpert/spec/860010274013?ad; Mount: Through Hole; Operating Temperature Max: 85°C; Operating Temperature Min: -40°C; Packaging: Ammo Pack; Height: 11.5mm; Diameter: 8mm; Capacitance: 680uF; Rated Voltage (DC): 10V
footprint WCAP-ATG8_D8H11.5
simulation model 860010274013_680uF
pins: 1 P, 2 N
text: +

## 860010274015
designator C?, comment 1000uF  (value not drawn)
WCAP-ATG8 Aluminum Electrolytic Capacitor, Radial, THT, D8 x H16mm, 1000uF, 10V; Manufacturer Part Number: 860010274015; Manufacturer: Wurth Elektronik; Capacitance Tolerance: +/-20%; Dissipation Factor: 19%; Endurance: 2000h; Leakage Current: 100uA; Ripple Current: 725mA; Technical Reference: ATBE160102M010DSPA7B000; Category: Aluminum Electrolytic Capacitors; Match Code: WCAP-ATG8; ComponentLink1Description: Website Link; ComponentLink1URL: https://www.we-online.com/redexpert/article/860010274015?ad; ComponentLink2Description: Datasheet Link; ComponentLink2URL: https://www.we-online.com/redexpert/spec/860010274015?ad; Mount: Through Hole; Operating Temperature Max: 85°C; Operating Temperature Min: -40°C; Packaging: Ammo Pack; Height: 16mm; Diameter: 8mm; Capacitance: 1000uF; Rated Voltage (DC): 10V
footprint WCAP-ATG8_D8H16
simulation model 860010274015_1mF
pins: 1 P, 2 N
text: +

## 860010275014
designator C?, comment 820uF  (value not drawn)
WCAP-ATG8 Aluminum Electrolytic Capacitor, Radial, THT, D10 x H12.5mm, 820uF, 10V; Manufacturer Part Number: 860010275014; Manufacturer: Wurth Elektronik; Capacitance Tolerance: +/-20%; Dissipation Factor: 19%; Endurance: 2000h; Leakage Current: 82uA; Ripple Current: 671mA; Technical Reference: ATBF125821M010DSPA9B000; Category: Aluminum Electrolytic Capacitors; Match Code: WCAP-ATG8; ComponentLink1Description: Website Link; ComponentLink1URL: https://www.we-online.com/redexpert/article/860010275014?ad; ComponentLink2Description: Datasheet Link; ComponentLink2URL: https://www.we-online.com/redexpert/spec/860010275014?ad; Mount: Through Hole; Operating Temperature Max: 85°C; Operating Temperature Min: -40°C; Packaging: Ammo Pack; Height: 12.5mm; Diameter: 10mm; Capacitance: 820uF; Rated Voltage (DC): 10V
footprint WCAP-ATG8_D10H12.5
simulation model 860010275014_820uF
pins: 1 P, 2 N
text: +

## 860010275016
designator C?, comment 1000uF  (value not drawn)
WCAP-ATG8 Aluminum Electrolytic Capacitor, Radial, THT, D10 x H12.5mm, 1000uF, 10V; Manufacturer Part Number: 860010275016; Manufacturer: Wurth Elektronik; Capacitance Tolerance: +/-20%; Dissipation Factor: 19%; Endurance: 2000h; Leakage Current: 100uA; Ripple Current: 726mA; Technical Reference: ATBF125102M010DSPA9B000; Category: Aluminum Electrolytic Capacitors; Match Code: WCAP-ATG8; ComponentLink1Description: Website Link; ComponentLink1URL: https://www.we-online.com/redexpert/article/860010275016?ad; ComponentLink2Description: Datasheet Link; ComponentLink2URL: https://www.we-online.com/redexpert/spec/860010275016?ad; Mount: Through Hole; Operating Temperature Max: 85°C; Operating Temperature Min: -40°C; Packaging: Ammo Pack; Height: 12.5mm; Diameter: 10mm; Capacitance: 1000uF; Rated Voltage (DC): 10V
footprint WCAP-ATG8_D10H12.5
simulation model 860010275016_1mF
pins: 1 P, 2 N
text: +

## 860010275017
designator C?, comment 1200uF  (value not drawn)
WCAP-ATG8 Aluminum Electrolytic Capacitor, Radial, THT, D10 x H16mm, 1200uF, 10V; Manufacturer Part Number: 860010275017; Manufacturer: Wurth Elektronik; Capacitance Tolerance: +/-20%; Dissipation Factor: 19%; Endurance: 2000h; Leakage Current: 120uA; Ripple Current: 902mA; Technical Reference: ATBF160122M010DSPAAB000; Category: Aluminum Electrolytic Capacitors; Match Code: WCAP-ATG8; ComponentLink1Description: Website Link; ComponentLink1URL: https://www.we-online.com/redexpert/article/860010275017?ad; ComponentLink2Description: Datasheet Link; ComponentLink2URL: https://www.we-online.com/redexpert/spec/860010275017?ad; Mount: Through Hole; Operating Temperature Max: 85°C; Operating Temperature Min: -40°C; Packaging: Ammo Pack; Height: 16mm; Diameter: 10mm; Capacitance: 1200uF; Rated Voltage (DC): 10V
footprint WCAP-ATG8_D10H16
simulation model 860010275017_1.2mF
pins: 1 P, 2 N
text: +

## 860010275018
designator C?, comment 1500uF  (value not drawn)
WCAP-ATG8 Aluminum Electrolytic Capacitor, Radial, THT, D10 x H16mm, 1500uF, 10V; Manufacturer Part Number: 860010275018; Manufacturer: Wurth Elektronik; Capacitance Tolerance: +/-20%; Dissipation Factor: 19%; Endurance: 2000h; Leakage Current: 150uA; Ripple Current: 1001mA; Technical Reference: ATBF160152M010DSPAAB000; Category: Aluminum Electrolytic Capacitors; Match Code: WCAP-ATG8; ComponentLink1Description: Website Link; ComponentLink1URL: https://www.we-online.com/redexpert/article/860010275018?ad; ComponentLink2Description: Datasheet Link; ComponentLink2URL: https://www.we-online.com/redexpert/spec/860010275018?ad; Mount: Through Hole; Operating Temperature Max: 85°C; Operating Temperature Min: -40°C; Packaging: Ammo Pack; Height: 16mm; Diameter: 10mm; Capacitance: 1500uF; Rated Voltage (DC): 10V
footprint WCAP-ATG8_D10H16
simulation model 860010275018_1.5mF
pins: 1 P, 2 N
text: +

## 860010275019
designator C?, comment 1800uF  (value not drawn)
WCAP-ATG8 Aluminum Electrolytic Capacitor, Radial, THT, D10 x H20mm, 1800uF, 10V; Manufacturer Part Number: 860010275019; Manufacturer: Wurth Elektronik; Capacitance Tolerance: +/-20%; Dissipation Factor: 19%; Endurance: 2000h; Leakage Current: 180uA; Ripple Current: 1089mA; Technical Reference: ATBF200182M010DSPAAB000; Category: Aluminum Electrolytic Capacitors; Match Code: WCAP-ATG8; ComponentLink1Description: Website Link; ComponentLink1URL: https://www.we-online.com/redexpert/article/860010275019?ad; ComponentLink2Description: Datasheet Link; ComponentLink2URL: https://www.we-online.com/redexpert/spec/860010275019?ad; Mount: Through Hole; Operating Temperature Max: 85°C; Operating Temperature Min: -40°C; Packaging: Ammo Pack; Height: 20mm; Diameter: 10mm; Capacitance: 1800uF; Rated Voltage (DC): 10V
footprint WCAP-ATG8_D10H20
simulation model 860010275019_1.8mF
pins: 1 P, 2 N
text: +

## 860010275020
designator C?, comment 2200uF  (value not drawn)
WCAP-ATG8 Aluminum Electrolytic Capacitor, Radial, THT, D10 x H20mm, 2200uF, 10V; Manufacturer Part Number: 860010275020; Manufacturer: Wurth Elektronik; Capacitance Tolerance: +/-20%; Dissipation Factor: 19%; Endurance: 2000h; Leakage Current: 220uA; Ripple Current: 1210mA; Technical Reference: ATBF200222M010DSPAAB000; Category: Aluminum Electrolytic Capacitors; Match Code: WCAP-ATG8; ComponentLink1Description: Website Link; ComponentLink1URL: https://www.we-online.com/redexpert/article/860010275020?ad; ComponentLink2Description: Datasheet Link; ComponentLink2URL: https://www.we-online.com/redexpert/spec/860010275020?ad; Mount: Through Hole; Operating Temperature Max: 85°C; Operating Temperature Min: -40°C; Packaging: Ammo Pack; Height: 20mm; Diameter: 10mm; Capacitance: 2200uF; Rated Voltage (DC): 10V
footprint WCAP-ATG8_D10H20
simulation model 860010275020_2.2mF
pins: 1 P, 2 N
text: +

## 860010278021
designator C?, comment 2700uF  (value not drawn)
WCAP-ATG8 Aluminum Electrolytic Capacitor, Radial, THT, D13 x H20mm, 2700uF, 10V; Manufacturer Part Number: 860010278021; Manufacturer: Wurth Elektronik; Capacitance Tolerance: +/-20%; Dissipation Factor: 19%; Endurance: 2000h; Leakage Current: 270uA; Ripple Current: 1419mA; Technical Reference: ATBI200272M010DSPACB000; Category: Aluminum Electrolytic Capacitors; Match Code: WCAP-ATG8; ComponentLink1Description: Website Link; ComponentLink1URL: https://www.we-online.com/redexpert/article/860010278021?ad; ComponentLink2Description: Datasheet Link; ComponentLink2URL: https://www.we-online.com/redexpert/spec/860010278021?ad; Mount: Through Hole; Operating Temperature Max: 85°C; Operating Temperature Min: -40°C; Packaging: Ammo Pack; Height: 20mm; Diameter: 13mm; Capacitance: 2700uF; Rated Voltage (DC): 10V
footprint WCAP-ATG8_D13H20
simulation model 860010278021_2.7mF
pins: 1 P, 2 N
text: +

## 860010278022
designator C?, comment 3300uF  (value not drawn)
WCAP-ATG8 Aluminum Electrolytic Capacitor, Radial, THT, D13 x H20mm, 3300uF, 10V; Manufacturer Part Number: 860010278022; Manufacturer: Wurth Elektronik; Capacitance Tolerance: +/-20%; Dissipation Factor: 19%; Endurance: 2000h; Leakage Current: 330uA; Ripple Current: 1540mA; Technical Reference: ATBI200332M010DSPACB000; Category: Aluminum Electrolytic Capacitors; Match Code: WCAP-ATG8; ComponentLink1Description: Website Link; ComponentLink1URL: https://www.we-online.com/redexpert/article/860010278022?ad; ComponentLink2Description: Datasheet Link; ComponentLink2URL: https://www.we-online.com/redexpert/spec/860010278022?ad; Mount: Through Hole; Operating Temperature Max: 85°C; Operating Temperature Min: -40°C; Packaging: Ammo Pack; Height: 20mm; Diameter: 13mm; Capacitance: 3300uF; Rated Voltage (DC): 10V
footprint WCAP-ATG8_D13H20
simulation model 860010278022_3.3mF
pins: 1 P, 2 N
text: +

## 860010278023
designator C?, comment 3900uF  (value not drawn)
WCAP-ATG8 Aluminum Electrolytic Capacitor, Radial, THT, D13 x H20mm, 3900uF, 10V; Manufacturer Part Number: 860010278023; Manufacturer: Wurth Elektronik; Capacitance Tolerance: +/-20%; Dissipation Factor: 19%; Endurance: 2000h; Leakage Current: 390uA; Ripple Current: 1760mA; Technical Reference: ATBI200392M010DSPACB000; Category: Aluminum Electrolytic Capacitors; Match Code: WCAP-ATG8; ComponentLink1Description: Website Link; ComponentLink1URL: https://www.we-online.com/redexpert/article/860010278023?ad; ComponentLink2Description: Datasheet Link; ComponentLink2URL: https://www.we-online.com/redexpert/spec/860010278023?ad; Mount: Through Hole; Operating Temperature Max: 85°C; Operating Temperature Min: -40°C; Packaging: Ammo Pack; Height: 20mm; Diameter: 13mm; Capacitance: 3900uF; Rated Voltage (DC): 10V
footprint WCAP-ATG8_D13H20
simulation model 860010278023_3.9mF
pins: 1 P, 2 N
text: +

## 860010278024
designator C?, comment 4700uF  (value not drawn)
WCAP-ATG8 Aluminum Electrolytic Capacitor, Radial, THT, D13 x H25mm, 4700uF, 10V; Manufacturer Part Number: 860010278024; Manufacturer: Wurth Elektronik; Capacitance Tolerance: +/-20%; Dissipation Factor: 19%; Endurance: 2000h; Leakage Current: 470uA; Ripple Current: 1980mA; Technical Reference: ATBI250472M010DSPACB000; Category: Aluminum Electrolytic Capacitors; Match Code: WCAP-ATG8; ComponentLink1Description: Website Link; ComponentLink1URL: https://www.we-online.com/redexpert/article/860010278024?ad; ComponentLink2Description: Datasheet Link; ComponentLink2URL: https://www.we-online.com/redexpert/spec/860010278024?ad; Mount: Through Hole; Operating Temperature Max: 85°C; Operating Temperature Min: -40°C; Packaging: Ammo Pack; Height: 25mm; Diameter: 13mm; Capacitance: 4700uF; Rated Voltage (DC): 10V
footprint WCAP-ATG8_D13H25
simulation model 860010278024_4.7mF
pins: 1 P, 2 N
text: +